# Altium integrated library Altium_WCAP-PSLC (rev22c).IntLib: 56 symbols (part 2 of 2)
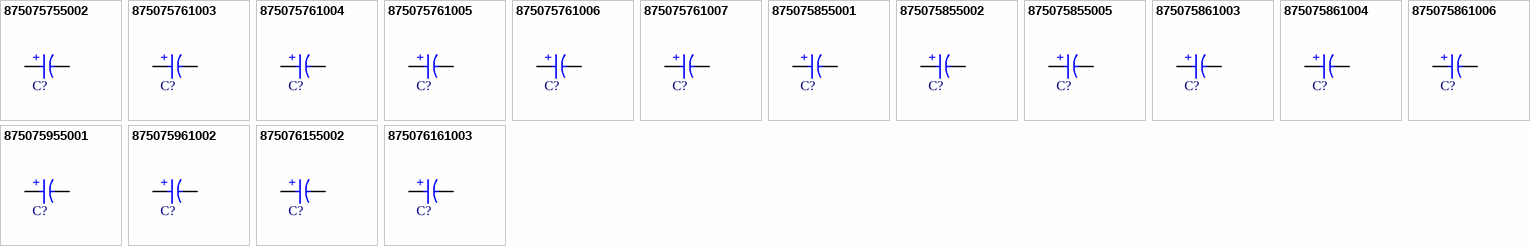
[diagram p2: symbols 875075755002 to 875076161003]

## 875075861006
designator C?, comment 47µF  (value not drawn)
WCAP-PSLC Aluminum Polymer Capacitor, V-Chip SMT, D10 x H12.4mm, 47µF, 63V; Manufacturer Part Number: 875075861006; Manufacturer: Wurth Elektronik; Capacitance Tolerance: +/-20%; Dissipation Factor: 12%; Endurance: 2000h; ESR: 30mΩ; Leakage Current: 592.2µA; Ripple Current: 2000mA; Technical Reference: PSEF124470M063DVCTFB000; Category: Aluminum Polymer Capacitors; Match Code: WCAP-PSLC; ComponentLink1Description: Website Link; ComponentLink1URL: https://www.we-online.com/redexpert/article/875075861006?ad; ComponentLink2Description: Datasheet Link; ComponentLink2URL: https://www.we-online.com/redexpert/spec/875075861006?ad; Mount: Surface Mount; Operating Temperature Max: 105°C; Operating Temperature Min: -55°C; Packaging: Tape and Reel; Height: 12.4mm; Diameter: 10mm; Capacitance: 47µF; Rated Voltage (DC): 63V
footprint WCAP-PSLC_D10H12.4
simulation model 875075861006_47uF
pins: 1 P, 2 N
text: +

## 875075955001
designator C?, comment 10µF  (value not drawn)
WCAP-PSLC Aluminum Polymer Capacitor, V-Chip SMT, D8 x H11.7mm, 10µF, 100V; Manufacturer Part Number: 875075955001; Manufacturer: Wurth Elektronik; Capacitance Tolerance: +/-20%; Dissipation Factor: 12%; Endurance: 2000h; ESR: 55mΩ; Leakage Current: 200µA; Ripple Current: 1400mA; Technical Reference: PSEE117100M100DVCTFB000; Category: Aluminum Polymer Capacitors; Match Code: WCAP-PSLC; ComponentLink1Description: Website Link; ComponentLink1URL: https://www.we-online.com/redexpert/article/875075955001?ad; ComponentLink2Description: Datasheet Link; ComponentLink2URL: https://www.we-online.com/redexpert/spec/875075955001?ad; Mount: Surface Mount; Operating Temperature Max: 105°C; Operating Temperature Min: -55°C; Packaging: Tape and Reel; Height: 11.7mm; Diameter: 8mm; Capacitance: 10µF; Rated Voltage (DC): 100V
footprint WCAP-PSLC_D8H11.7
simulation model 875075955001_10uF
pins: 1 P, 2 N
text: +

## 875075961002
designator C?, comment 22µF  (value not drawn)
WCAP-PSLC Aluminum Polymer Capacitor, V-Chip SMT, D10 x H12.4mm, 22µF, 100V; Manufacturer Part Number: 875075961002; Manufacturer: Wurth Elektronik; Capacitance Tolerance: +/-20%; Dissipation Factor: 12%; Endurance: 2000h; ESR: 50mΩ; Leakage Current: 440µA; Ripple Current: 1600mA; Technical Reference: PSEF124220M100DVCTFB000; Category: Aluminum Polymer Capacitors; Match Code: WCAP-PSLC; ComponentLink1Description: Website Link; ComponentLink1URL: https://www.we-online.com/redexpert/article/875075961002?ad; ComponentLink2Description: Datasheet Link; ComponentLink2URL: https://www.we-online.com/redexpert/spec/875075961002?ad; Mount: Surface Mount; Operating Temperature Max: 105°C; Operating Temperature Min: -55°C; Packaging: Tape and Reel; Height: 12.4mm; Diameter: 10mm; Capacitance: 22µF; Rated Voltage (DC): 100V
footprint WCAP-PSLC_D10H12.4
simulation model 875075961002_22uF
pins: 1 P, 2 N
text: +

## 875076155002
designator C?, comment 12µF  (value not drawn)
WCAP-PSLC Aluminum Polymer Capacitor, V-Chip SMT, D8 x H11.7mm, 12µF, 80V; Manufacturer Part Number: 875076155002; Manufacturer: Wurth Elektronik; Capacitance Tolerance: +/-20%; Dissipation Factor: 12%; Endurance: 2000h; ESR: 40mΩ; Leakage Current: 192µA; Ripple Current: 1800mA; Technical Reference: PSEE117120M080DVCTFB000; Category: Aluminum Polymer Capacitors; Match Code: WCAP-PSLC; ComponentLink1Description: Website Link; ComponentLink1URL: https://www.we-online.com/redexpert/article/875076155002?ad; ComponentLink2Description: Datasheet Link; ComponentLink2URL: https://www.we-online.com/redexpert/spec/875076155002?ad; Mount: Surface Mount; Operating Temperature Max: 105°C; Operating Temperature Min: -55°C; Packaging: Tape and Reel; Height: 11.7mm; Diameter: 8mm; Capacitance: 12µF; Rated Voltage (DC): 80V
footprint WCAP-PSLC_D8H11.7
simulation model 875076155002_12uF
pins: 1 P, 2 N
text: +

## 875076161003
designator C?, comment 22µF  (value not drawn)
WCAP-PSLC Aluminum Polymer Capacitor, V-Chip SMT, D10 x H12.4mm, 22µF, 80V; Manufacturer Part Number: 875076161003; Manufacturer: Wurth Elektronik; Capacitance Tolerance: +/-20%; Dissipation Factor: 12%; Endurance: 2000h; ESR: 38mΩ; Leakage Current: 352µA; Ripple Current: 2300mA; Technical Reference: PSEF124220M080DVCTFB000; Category: Aluminum Polymer Capacitors; Match Code: WCAP-PSLC; ComponentLink1Description: Website Link; ComponentLink1URL: https://www.we-online.com/redexpert/article/875076161003?ad; ComponentLink2Description: Datasheet Link; ComponentLink2URL: https://www.we-online.com/redexpert/spec/875076161003?ad; Mount: Surface Mount; Operating Temperature Max: 105°C; Operating Temperature Min: -55°C; Packaging: Tape and Reel; Height: 12.4mm; Diameter: 10mm; Capacitance: 22µF; Rated Voltage (DC): 80V
footprint WCAP-PSLC_D10H12.4
simulation model 875076161003_22uF
pins: 1 P, 2 N
text: +